# Altium schematic symbol library BSZ097N10NS5.SchLib: 1 symbol
Pins are listed as number, name and electrical type; pins without a type are passive.

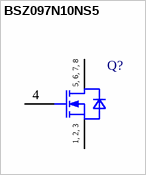
[diagram p0: symbol BSZ097N10NS5]

## BSZ097N10NS5
designator Q?  (value not drawn)
OptiMOS-5 Power Transistor, 100 V; Manufacturer: Infineon Technologies; ManufacturerPartNumber: BSZ097N10NS5; PackageReference: PG-TSDSON-8 FL
footprint INF-PG-TSDSON-8-FL
pins: 1 SOURCE, 2 SOURCE, 3 SOURCE, 4 GATE, 5 DRAIN, 6 DRAIN, 7 DRAIN, 8 DRAIN
text: 5, 6, 7, 8; 1, 2, 3